# EAGLE library part P82B715 (library 000001)
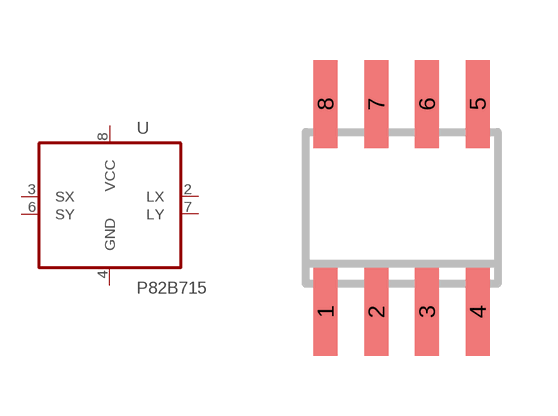
[diagram p109: symbol with the pads of SO08; footprint SO08]

Designator prefix -

## P82B715  [SO08]
2  LX
3  SX
4  GND  pwr
6  SY
7  LY
8  VCC  pwr

## Footprint SO08 (pad centres in mm)
Small Outline Package 8 NS Package M08A
smd 0.6 x 2.2: 1 -1.905,-2.6; 2 -0.635,-2.6; 3 0.635,-2.6; 4 1.905,-2.6; 5 1.905,2.6; 6 0.635,2.6; 7 -0.635,2.6; 8 -1.905,2.6